# EAGLE library part FDS8858CZ (library ads4)
Fairchild FDS8858CZ 30V Dual N/P MOSFET
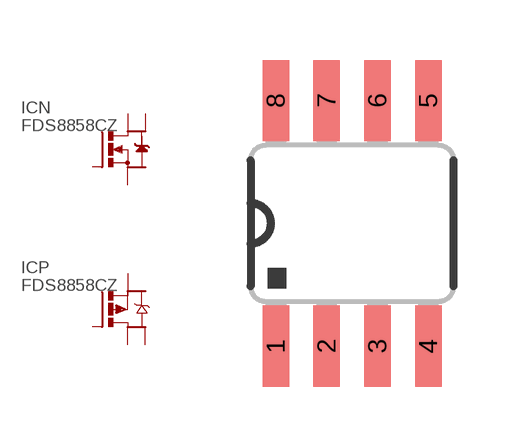
[diagram p80: symbol with the pads of SO08; footprint SO08]

Designator prefix IC; gates N=MOSFET-N-1S1G2D P=MOSFET-P-1S1G2D

## FDS8858CZ  [SO08]
1  N:S1  pas
2  N:G  pas
3  P:S1  pas
4  P:G  pas
5  P:D1  pas
6  P:D3  pas
7  N:D1  pas
8  N:D3  pas

## Footprint SO08 (pad centres in mm)
SO08 Package from 74xx-us.lbr 0.15" body
smd 0.66 x 2.032: 1 -1.905,-3.073; 2 -0.635,-3.073; 3 0.635,-3.073; 4 1.905,-3.073; 5 1.905,3.073; 6 0.635,3.073; 7 -0.635,3.073; 8 -1.905,3.073